# Altium footprint library national-semiconductor.PCBLIB: 26 footprints (part 2 of 2)
Each footprint in its own frame and in the unit in brackets; x right, y up, seen from the top. Pads: shape width x height; smd on the part's side, far side on the other; paste and mask are expansions set on the pad; w line width, h text height; cw(c..) or ccw(c..) is an arc to the next point about the centre after c.
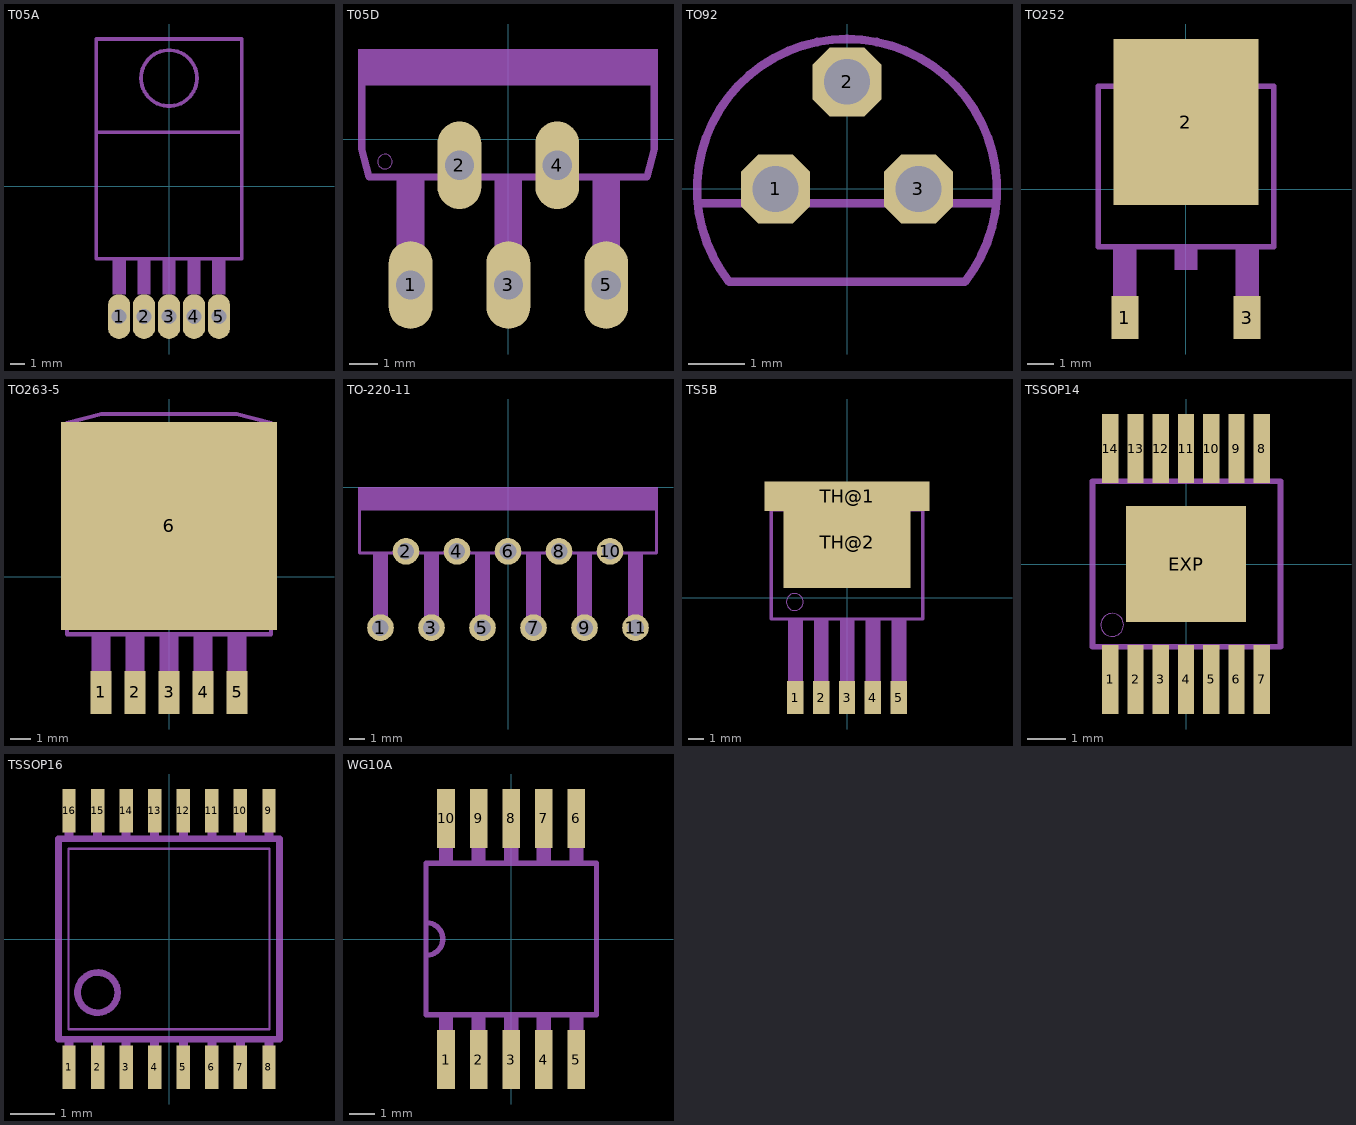
[diagram p1: the footprints below, top view; thin cyan lines are the x and y axes]

## T05A [mil]
pads (5):
  oval 60x120 hole 40: 1(-134,-350) 2(-67,-350) 3(0,-350) 4(67,-350) 5(134,-350)
Mechanical 2:
  circle w10: c0,290 r75
  rectangle: -152,-290 -116,-195
  rectangle: -85,-290 -49,-195
  rectangle: -18,-290 18,-195
  rectangle: 49,-290 85,-195
  rectangle: 116,-290 152,-195
  lines w10: -195,145 -195,-195 195,-195 195,145 ; -195,145 195,145 ; -195,145 -195,395 195,395 195,145

## T05D [mil]
pads (5):
  oval 60x120 hole 40: 1(-134,-200) 2(-67,-36) 3(0,-200) 4(67,-36) 5(134,-200)
Mechanical 2:
  circle w0: c-169,-31 r10
  rectangle: -206,73 205,123
  rectangle: -153,-152 -115,-53
  rectangle: -19,-152 19,-53
  rectangle: 115,-152 153,-53
  lines w10: -201,79 -201,-13 -191,-52 -120,-52 ; -14,-52 14,-52 ; 120,-52 190,-52 200,-13 200,79
Mechanical 18:
  lines w10: -120,-52 -14,-52 ; 14,-52 120,-52

## TO92 [mil]
pads (3):
  oct 48.41x48.41 hole 32: 1(-50,0) 2(0,75) 3(50,0)
Mechanical 2:
  lines w6: -104.53,-10 -88.74,-10 ; -30.98,100.33 ccw(c-0.02,0) -82.48,-65 82.48,-65 ccw(c0.02,0) 30.98,100.33 ; -11.26,-10 11.26,-10 ; 88.74,-10 104.53,-10
Mechanical 18:
  lines w6: -88.74,-10 -11.26,-10 ; -30.96,100.33 cw(c0,0) 30.96,100.33 ; 11.26,-10 88.74,-10

## TO252 [mm]
pads (3):
  rect 1x1.6 smd: 1(-2.28,-4.8) 3(2.28,-4.8)
  rect 5.4x6.2 smd: 2(0,2.5)
Mechanical 2:
  rectangle: -0.432,-3.023 0.432,-2.261
  lines w0.203: -3.277,3.835 -3.277,-2.159 3.277,-2.159 3.277,3.835
Mechanical 18:
  rectangle: -2.718,-5.156 -1.854,-2.261
  rectangle: 1.854,-5.156 2.718,-2.261
  region: 0,0 0.254,0 0.254,0.254 0,0.254
  lines w0.203: -3.277,3.835 3.277,3.835 ; -2.565,3.937 -2.565,4.648 -2.108,5.105 2.108,5.105 2.565,4.648 2.565,3.937 -2.565,3.937

## TO263-5 [mil]
pads (6):
  rect 42x85 smd: 1(-134,-228) 2(-67,-228) 3(0,-228) 4(67,-228) 5(134,-228)
  rect 425.2x409.84 smd: 6(0,100)
Mechanical 2:
  rectangle: -153,-176 -115,-110
  rectangle: -86,-176 -48,-110
  rectangle: -19,-176 19,-110
  rectangle: 48,-176 86,-110
  rectangle: 115,-176 153,-110
  lines w8: -200.55,-113.39 200.55,-113.39
Mechanical 18:
  rectangle: -153,-260 -115,-175
  rectangle: -86,-260 -48,-175
  rectangle: -19,-260 19,-175
  rectangle: 48,-260 86,-175
  rectangle: 115,-260 153,-175
  region: 0,0 10,0 10,10 0,10
  lines w8: -200.55,-113.39 -200.55,282.09 200.55,282.09 200.55,-113.39 ; -200.98,286.1 -200.98,302.28 -132.99,320.28 132.99,320.28 200.98,302.28 200.98,286.1 -200.98,286.1

## TO-220-11 [mil]
pads (11):
  round 70 hole 43.31: 1(-334.65,-368.9) 2(-267.72,-168.9) 3(-200.79,-368.9) 4(-133.86,-168.9) 5(-66.93,-368.9) 6(0,-168.9) 7(66.93,-368.9) 8(133.86,-168.9) 9(200.79,-368.9) 10(267.72,-168.9) 11(334.65,-368.9)
Mechanical 2:
  rectangle: -393.7,-61.02 393.7,0
  rectangle: -354.33,-321.85 -314.96,-169.29
  rectangle: -220.47,-321.85 -181.1,-169.29
  rectangle: -86.61,-321.85 -47.24,-169.29
  rectangle: 47.24,-321.85 86.61,-169.29
  rectangle: 181.1,-321.85 220.47,-169.29
  rectangle: 314.96,-321.85 354.33,-169.29
  lines w8: -389.76,-59.06 -389.76,-173.23 -335.24,-173.23 ; 335.24,-173.23 389.76,-173.23 389.76,-59.06
Mechanical 18:
  lines w8: -389.76,-173.23 389.76,-173.23
  lines w39.37: -334.65,-368.11 -334.65,-326.77 ; -200.79,-368.11 -200.79,-326.77 ; -66.93,-368.11 -66.93,-326.77 ; 66.93,-368.11 66.93,-326.77 ; 200.79,-368.11 200.79,-326.77 ; 334.65,-368.11 334.65,-326.77

## TS5B [mm]
pads (7):
  rect 1.07x2.16 smd: 1(-3.4,-6.55) 2(-1.7,-6.55) 3(0,-6.55) 4(1.7,-6.55) 5(3.4,-6.55)
  rect 10.8x1.91 smd: TH@1(0,6.665)
  rect 8.33x6 smd: TH@2(0,3.635)
Mechanical 2:
  circle w0: c-3.43,-0.275 r0.555
  region: -3.875,-1.455 -3.875,-4.78 -2.9,-4.78 -2.9,-1.455
  region: -2.175,-1.455 -2.175,-4.78 -1.2,-4.78 -1.2,-1.455
  region: -0.475,-1.455 -0.475,-4.78 0.5,-4.78 0.5,-1.455
  region: 1.225,-1.455 1.225,-4.78 2.2,-4.78 2.2,-1.455
  region: 2.925,-1.455 2.925,-4.78 3.9,-4.78 3.9,-1.455
  lines w0.203: -4.975,3.62 -4.975,-1.405 4.975,-1.405 4.975,3.62
Mechanical 18:
  region: -3.875,-4.78 -3.875,-7.23 -2.9,-7.23 -2.9,-4.78
  region: -2.175,-4.78 -2.175,-7.23 -1.2,-7.23 -1.2,-4.78
  region: -0.475,-4.78 -0.475,-7.23 0.5,-7.23 0.5,-4.78
  region: 1.225,-4.78 1.225,-7.23 2.2,-7.23 2.2,-4.78
  region: 2.925,-4.78 2.925,-7.23 3.9,-7.23 3.9,-4.78
  lines w0.203: -4.975,-1.405 -4.975,5.75 ; 4.975,-1.405 4.975,6.77 3.5,7.025 -3.55,7.025 -4.975,6.77 -4.975,5.75 ; 4.975,5.75 -4.975,5.75

## TSSOP14 [mm]
pads (15):
  rect 0.42x1.78 smd: 1(-1.95,-2.975) 2(-1.3,-2.975) 3(-0.65,-2.975) 4(0,-2.975) 5(0.65,-2.975) 6(1.3,-2.975) 7(1.95,-2.975) 8(1.95,2.975) 9(1.3,2.975) 10(0.65,2.975) 11(0,2.975) 12(-0.65,2.975) 13(-1.3,2.975) 14(-1.95,2.975)
  rect 3.1x3 smd: EXP(0,0)
Mechanical 2:
  circle w0: c-1.901,-1.569 r0.294
  lines w0.152: -2.415,-2.133 -2.415,2.133 ; 2.44,-2.133 2.44,2.133
Mechanical 18:
  rectangle: -2.1,-3.2 -1.8,-2.083
  rectangle: -1.45,-3.2 -1.15,-2.083
  rectangle: -0.8,-3.2 -0.5,-2.083
  rectangle: -0.15,-3.2 0.15,-2.083
  rectangle: 0.5,-3.2 0.8,-2.083
  rectangle: 1.15,-3.2 1.45,-2.083
  rectangle: 1.8,-3.2 2.1,-2.083
  region: 2.1,3.2 1.8,3.2 1.8,2.083 2.1,2.083
  region: 1.45,3.2 1.15,3.2 1.15,2.083 1.45,2.083
  region: 0.8,3.2 0.5,3.2 0.5,2.083 0.8,2.083
  region: 0.15,3.2 -0.15,3.2 -0.15,2.083 0.15,2.083
  region: -0.5,3.2 -0.8,3.2 -0.8,2.083 -0.5,2.083
  region: -1.15,3.2 -1.45,3.2 -1.45,2.083 -1.15,2.083
  region: -1.8,3.2 -2.1,3.2 -2.1,2.083 -1.8,2.083
  lines w0.152: -2.415,-2.133 2.44,-2.133 ; -2.415,2.133 2.44,2.133

## TSSOP16 [mil]
pads (16):
  rect 12x39 smd: 1(-89.57,-114.87) 2(-63.98,-114.87) 3(-38.39,-114.87) 4(-12.8,-114.87) 5(12.8,-114.87) 6(38.39,-114.87) 7(63.98,-114.87) 8(89.57,-114.87) 9(89.57,114.87) 10(63.98,114.87) 11(38.39,114.87) 12(12.8,114.87) 13(-12.8,114.87) 14(-38.39,114.87) 15(-63.98,114.87) 16(-89.57,114.87)
Mechanical 2:
  circle w6: c-64,-48 r18
  lines w2: -90,-80.87 90,-80.87 90,80.87 -90,80.87 -90,-80.87
  lines w6: -99,-89.87 99,-89.87 99,89.87 -99,89.87 -99,-89.87
Mechanical 18:
  rectangle: -93.57,-122.87 -85.57,-89.87
  rectangle: -67.98,-122.87 -59.98,-89.87
  rectangle: -42.39,-122.87 -34.39,-89.87
  rectangle: -16.8,-122.87 -8.8,-89.87
  rectangle: 8.8,-122.87 16.8,-89.87
  rectangle: 34.39,-122.87 42.39,-89.87
  rectangle: 59.98,-122.87 67.98,-89.87
  rectangle: 85.57,-122.87 93.57,-89.87
  rectangle: 85.57,89.87 93.57,122.87
  rectangle: 59.98,89.87 67.98,122.87
  rectangle: 34.39,89.87 42.39,122.87
  rectangle: 8.8,89.87 16.8,122.87
  rectangle: -16.8,89.87 -8.8,122.87
  rectangle: -42.39,89.87 -34.39,122.87
  rectangle: -67.98,89.87 -59.98,122.87
  rectangle: -93.57,89.87 -85.57,122.87

## WG10A [mm]
pads (10):
  rect 0.69x2.29 smd: 1(-2.54,-4.7) 2(-1.27,-4.7) 3(0,-4.7) 4(1.27,-4.7) 5(2.54,-4.7) 6(2.54,4.7) 7(1.27,4.7) 8(0,4.7) 9(-1.27,4.7) 10(-2.54,4.7)
Mechanical 2:
  lines w0.203: -3.3,-0.635 ccw(c-3.3,0) -3.3,0.635 ; -3.325,-2.95 3.325,-2.95 3.325,2.95 -3.325,2.95 -3.325,-2.95
Mechanical 18:
  rectangle: -2.815,-5.2 -2.265,-3.06
  rectangle: -1.545,-5.2 -0.995,-3.06
  rectangle: -0.275,-5.2 0.275,-3.06
  rectangle: 0.995,-5.2 1.545,-3.06
  rectangle: 2.265,-5.2 2.815,-3.06
  region: 2.815,5.2 2.265,5.2 2.265,3.06 2.815,3.06
  region: 1.545,5.2 0.995,5.2 0.995,3.06 1.545,3.06
  region: 0.275,5.2 -0.275,5.2 -0.275,3.06 0.275,3.06
  region: -0.995,5.2 -1.545,5.2 -1.545,3.06 -0.995,3.06
  region: -2.265,5.2 -2.815,5.2 -2.815,3.06 -2.265,3.06